# EAGLE library part ATXMEGA32E5 (library Atmel)
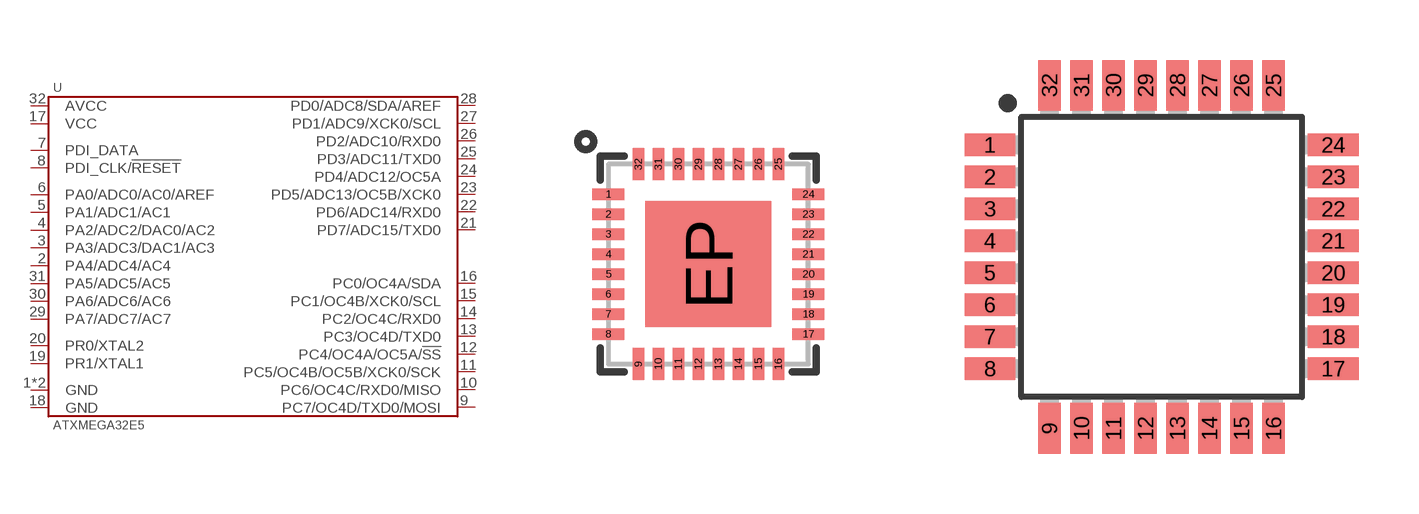
[diagram p5: symbol with the pads of QFN-32; footprints QFN-32, TQFP-32]

Designator prefix U

## ATXMEGA32E5-MU  [QFN-32]
1  GND
2  PA4/ADC4/AC4
3  PA3/ADC3/DAC1/AC3
4  PA2/ADC2/DAC0/AC2
5  PA1/ADC1/AC1
6  PA0/ADC0/AC0/AREF
7  PDI_DATA
8  PDI_CLK/!RESET
9  PC7/OC4D/TXD0/MOSI
10  PC6/OC4C/RXD0/MISO
11  PC5/OC4B/OC5B/XCK0/SCK
12  PC4/OC4A/OC5A/!SS!
13  PC3/OC4D/TXD0
14  PC2/OC4C/RXD0
15  PC1/OC4B/XCK0/SCL
16  PC0/OC4A/SDA
17  VCC
18  GND
19  PR1/XTAL1
20  PR0/XTAL2
21  PD7/ADC15/TXD0
22  PD6/ADC14/RXD0
23  PD5/ADC13/OC5B/XCK0
24  PD4/ADC12/OC5A
25  PD3/ADC11/TXD0
26  PD2/ADC10/RXD0
27  PD1/ADC9/XCK0/SCL
28  PD0/ADC8/SDA/AREF
29  PA7/ADC7/AC7
30  PA6/ADC6/AC6
31  PA5/ADC5/AC5
32  AVCC
EP  GND

## ATXMEGA32E5-AU  [TQFP-32]
1  GND
2  PA4/ADC4/AC4
3  PA3/ADC3/DAC1/AC3
4  PA2/ADC2/DAC0/AC2
5  PA1/ADC1/AC1
6  PA0/ADC0/AC0/AREF
7  PDI_DATA
8  PDI_CLK/!RESET
9  PC7/OC4D/TXD0/MOSI
10  PC6/OC4C/RXD0/MISO
11  PC5/OC4B/OC5B/XCK0/SCK
12  PC4/OC4A/OC5A/!SS!
13  PC3/OC4D/TXD0
14  PC2/OC4C/RXD0
15  PC1/OC4B/XCK0/SCL
16  PC0/OC4A/SDA
17  VCC
18  GND
19  PR1/XTAL1
20  PR0/XTAL2
21  PD7/ADC15/TXD0
22  PD6/ADC14/RXD0
23  PD5/ADC13/OC5B/XCK0
24  PD4/ADC12/OC5A
25  PD3/ADC11/TXD0
26  PD2/ADC10/RXD0
27  PD1/ADC9/XCK0/SCL
28  PD0/ADC8/SDA/AREF
29  PA7/ADC7/AC7
30  PA6/ADC6/AC6
31  PA5/ADC5/AC5
32  AVCC

## Footprint QFN-32 (pad centres in mm)
smd 0.8 x 0.285: 1 -2.5,1.75; 2 -2.5,1.25; 3 -2.5,0.75; 4 -2.5,0.25; 5 -2.5,-0.25; 6 -2.5,-0.75; 7 -2.5,-1.25; 8 -2.5,-1.75; 17 2.5,-1.75; 18 2.5,-1.25; 19 2.5,-0.75; 20 2.5,-0.25; 21 2.5,0.25; 22 2.5,0.75; 23 2.5,1.25; 24 2.5,1.75
smd 0.285 x 0.8: 9 -1.75,-2.5; 10 -1.25,-2.5; 11 -0.75,-2.5; 12 -0.25,-2.5; 13 0.25,-2.5; 14 0.75,-2.5; 15 1.25,-2.5; 16 1.75,-2.5; 25 1.75,2.5; 26 1.25,2.5; 27 0.75,2.5; 28 0.25,2.5; 29 -0.25,2.5; 30 -0.75,2.5; 31 -1.25,2.5; 32 -1.75,2.5
smd 3.15 x 3.15: EP 0,0

## Footprint TQFP-32 (pad centres in mm)
smd 1.27 x 0.559: 1 -4.293,2.8; 2 -4.293,2; 3 -4.293,1.2; 4 -4.293,0.4; 5 -4.293,-0.4; 6 -4.293,-1.2; 7 -4.293,-2; 8 -4.293,-2.8; 17 4.293,-2.8; 18 4.293,-2; 19 4.293,-1.2; 20 4.293,-0.4; 21 4.293,0.4; 22 4.293,1.2; 23 4.293,2; 24 4.293,2.8
smd 0.559 x 1.27: 9 -2.8,-4.293; 10 -2,-4.293; 11 -1.2,-4.293; 12 -0.4,-4.293; 13 0.4,-4.293; 14 1.2,-4.293; 15 2,-4.293; 16 2.8,-4.293; 25 2.8,4.293; 26 2,4.293; 27 1.2,4.293; 28 0.4,4.293; 29 -0.4,4.293; 30 -1.2,4.293; 31 -2,4.293; 32 -2.8,4.293